# Altium schematic symbol library Ribbon Cable Header.SchLib: 2 symbols
Pins are listed as number, name and electrical type; pins without a type are passive.

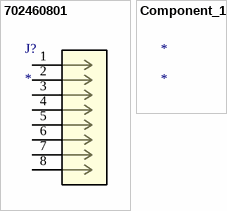
[diagram p0: symbols 702460801 to Component_1]

## 702460801
designator J?
No Description Available; Mfr_Name: Molex Connector Corporation; RefDes: RefDes; Type: Type
footprint CONN_7024608xx_MOL
pins: 1, 2, 3, 4, 5, 6, 7, 8

## Component_1
designator *